# EAGLE library part JST-XH-CONNECTORS-GHII_JST-XH-10-PIN (library Relaya_the second Version 2)
JST XH Connector 2 Pin Wire to board connector. Pitch: 2,54 mm, (0.100") Number of pins: 10 Created by Rembrandt Electronics www.rembrandtelectronics.com
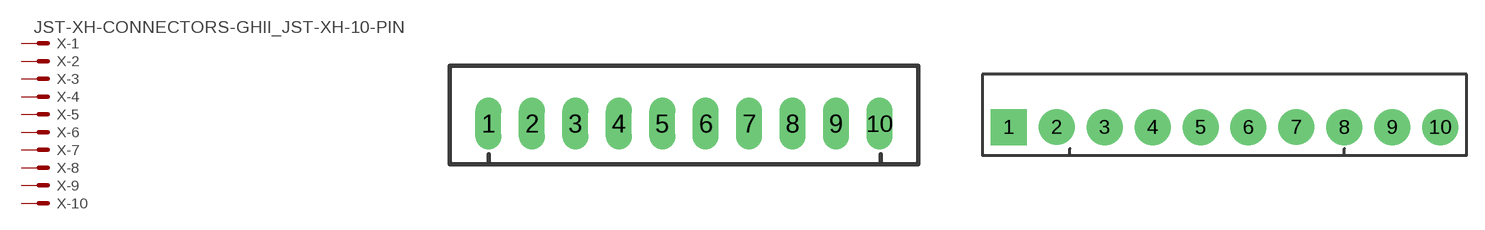
[diagram p0: symbol with the pads of JST-XH-CONNECTORS-GHII_JST-XH-10-PACKAGE-LONG-PAD; footprints JST-XH-CONNECTORS-GHII_JST-XH-10-PACKAGE-LONG-PAD, JST-XH-CONNECTORS-GHII_JST-XH-10-PACKAGE-ROUND-PAD]

Designator prefix X; gates -1=JST-XH-CONNECTORS-GHII_MV -2=JST-XH-CONNECTORS-GHII_M -3=JST-XH-CONNECTORS-GHII_M -4=JST-XH-CONNECTORS-GHII_M -5=JST-XH-CONNECTORS-GHII_M -6=JST-XH-CONNECTORS-GHII_M -7=JST-XH-CONNECTORS-GHII_M -8=JST-XH-CONNECTORS-GHII_M -9=JST-XH-CONNECTORS-GHII_M -10=JST-XH-CONNECTORS-GHII_M

## JST-XH-CONNECTORS-GHII_JST-XH-10-PIN-LONG-PAD  [JST-XH-CONNECTORS-GHII_JST-XH-10-PACKAGE-LONG-PAD]
1  -1:S  pas
2  -2:S  pas
3  -3:S  pas
4  -4:S  pas
5  -5:S  pas
6  -6:S  pas
7  -7:S  pas
8  -8:S  pas
9  -9:S  pas
10  -10:S  pas

## JST-XH-CONNECTORS-GHII_JST-XH-10-PIN-ROUND-PAD  [JST-XH-CONNECTORS-GHII_JST-XH-10-PACKAGE-ROUND-PAD]
Pads as for JST-XH-CONNECTORS-GHII_JST-XH-10-PACKAGE-LONG-PAD

## Footprint JST-XH-CONNECTORS-GHII_JST-XH-10-PACKAGE-LONG-PAD (pad centres in mm)
JST XH Connector Long Pads (Package) Wire to board connector. Pitch: 2,54 mm, (0.100") Number of pins: 10 Created by Rembrandt Electronics www.rembrandtelectronics.com
drill 1.016 long: 1 -11.43,0; 2 -8.89,0; 3 -6.35,0; 4 -3.81,0; 5 -1.27,0; 6 1.27,0; 7 3.81,0; 8 6.35,0; 9 8.89,0; 10 11.43,0

## Footprint JST-XH-CONNECTORS-GHII_JST-XH-10-PACKAGE-ROUND-PAD (pad centres in mm)
JST XH Connector Round Pads (Package) Wire to board connector. Pitch: 2,54 mm, (0.100") Number of pins: 10 Created by Rembrandt Electronics www.rembrandtelectronics.com
drill 1.4 pad 3 square: 1 -18.5,0
drill 1.4 pad 3: 2 -14.5,0.01; 3 -10.5,0; 4 -6.5,0; 5 -2.5,0; 6 1.5,-0.01; 7 5.5,0.01; 8 9.5,-0.01; 9 13.5,0; 10 17.5,0